# Altium footprint library TF_card.PcbLib: 1 footprints
Each footprint in its own frame and in the unit in brackets; x right, y up, seen from the top. Pads: shape width x height; smd on the part's side, far side on the other; paste and mask are expansions set on the pad; w line width, h text height; cw(c..) or ccw(c..) is an arc to the next point about the centre after c.
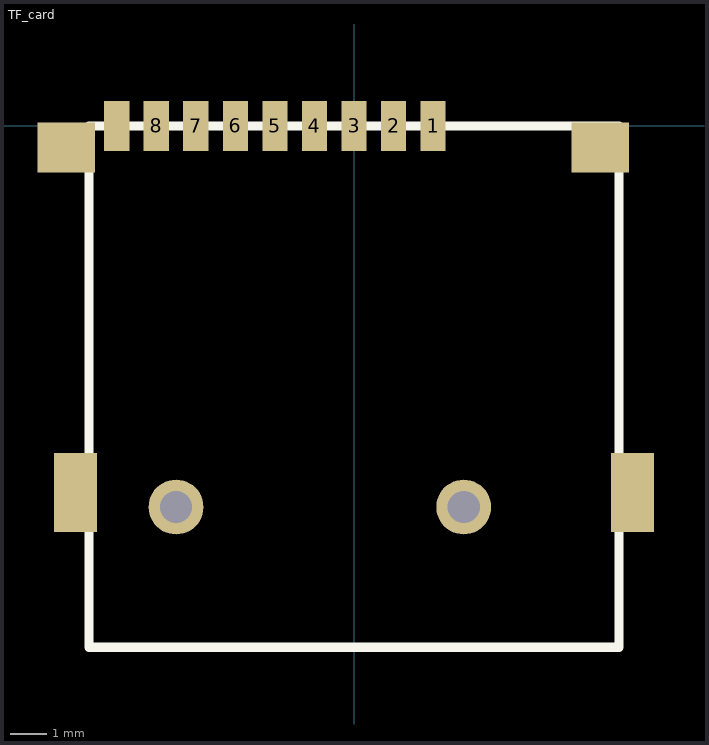
[diagram p0: the footprint, top view; thin cyan lines are the x and y axes]

## TF_card [mm]
pads (15):
  rect 0.7x1.4 smd: 1(2.2,0) 2(1.1,0) 3(0,0) 4(-1.1,0) 5(-2.2,0) 6(-3.3,0) 7(-4.4,0) 8(-5.5,0) ""(-6.6,0)
  rect 1.6x1.4 smd: ""(-8,-0.6) ""(6.85,-0.6)
  rect 1.2x2.2 smd: ""(-7.75,-10.2) ""(7.75,-10.2)
  round 1.524 hole 0.9: ""(-4.95,-10.6) ""(3.05,-10.6)
Top Overlay:
  lines w0.254: -7.375,-14.5 -7.375,0 7.375,0 7.375,-14.5 -7.375,-14.5